# Altium schematic symbol library Components - 03.08.24 - 23.05.SchLib: 1 symbol
Pins are listed as number, name and electrical type; pins without a type are passive.

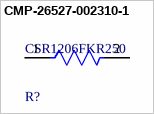
[diagram p0: symbol CMP-26527-002310-1]

## CMP-26527-002310-1
designator R?, comment CSR1206FKR250
General Purpose Thick Film Chip Resistor, 1206, 0.25Ω, 1%, 100ppm/°C, 0.5W; Resistance: 250mR; Power Rating: 500mW; RoHS Compliant: Yes; Resistor Type: Thick Film; Min Operating Temperature: -55°C; Temperature Coefficient: 100ppm/°C; Tolerance: 1%; Width: 0.061inch; Number of Terminations: 2; Length: 0.12inch; Max Power Dissipation: 500mW; Height: 0.026inch; Lead Free: Lead Free; Packaging: Tape and Reel; Case Code (Metric): 3216; Series: CSR; Case/Package: 1206; Case Code (Imperial): 1206; Mount: Surface Mount; Termination: Wraparound; Max Operating Temperature: 155°C; Contact Plating: Tin
footprint FP-CSR1206-MFG
footprint FP-CSR1206-IPC_A
footprint FP-CSR1206-IPC_C
footprint FP-CSR1206-IPC_B
pins: 1, 2